# Altium footprint library PCB_Library.PcbLib: 42 footprints (part 3 of 3)
Each footprint in its own frame and in the unit in brackets; x right, y up, seen from the top. Pads: shape width x height; smd on the part's side, far side on the other; paste and mask are expansions set on the pad; w line width, h text height; cw(c..) or ccw(c..) is an arc to the next point about the centre after c.
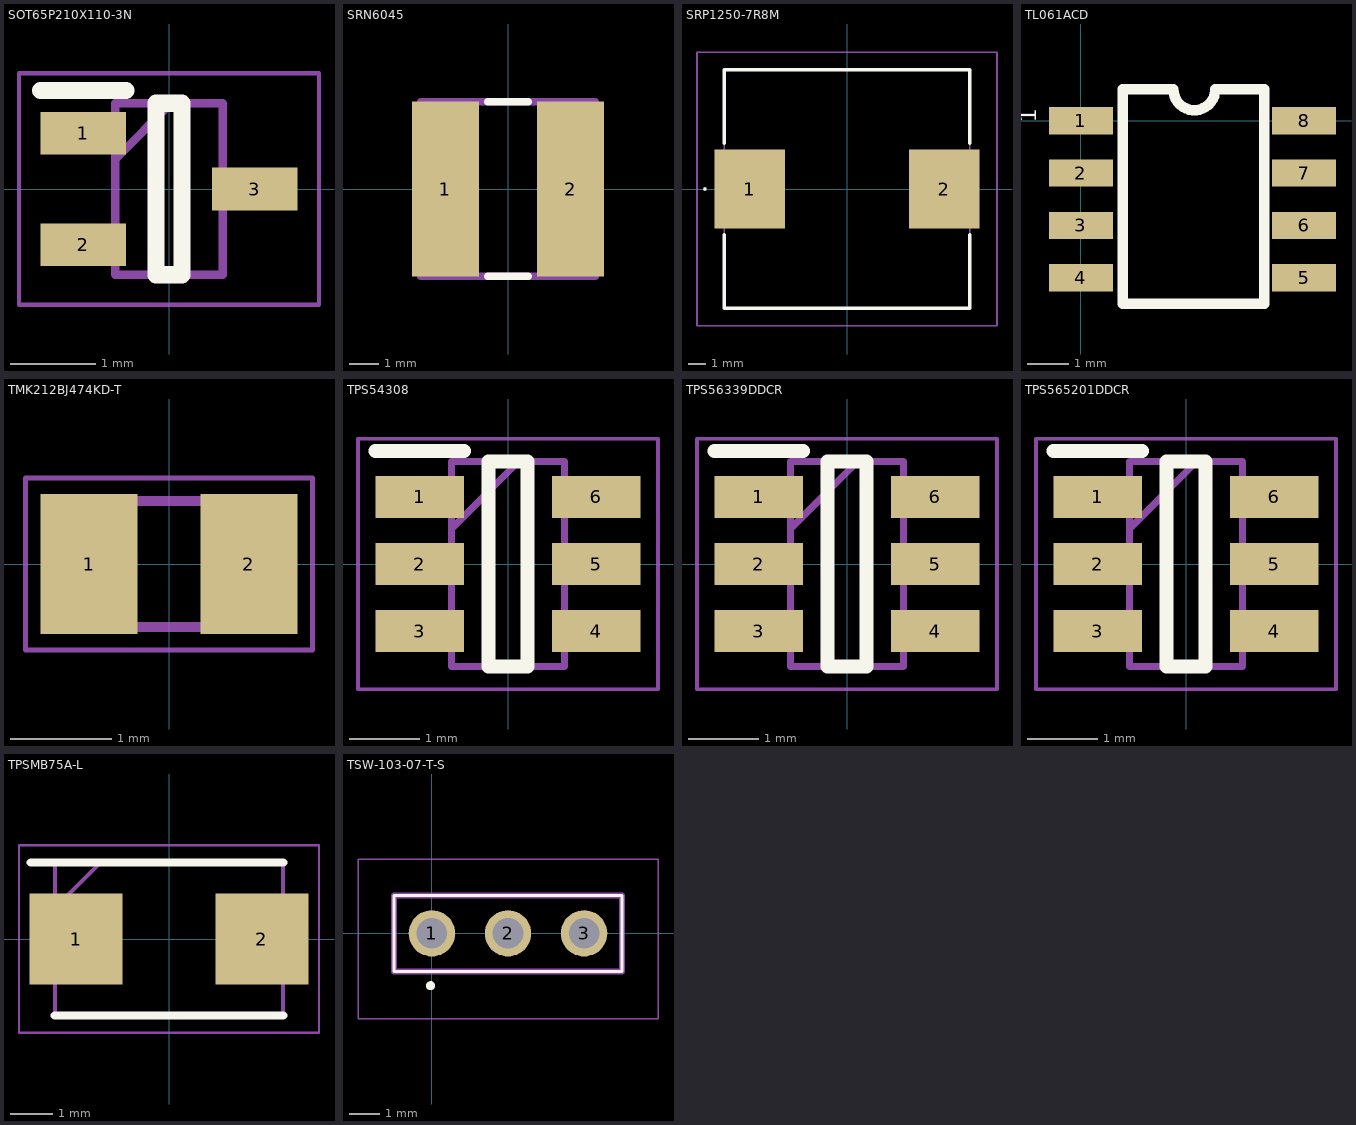
[diagram p2: the footprints below, top view; thin cyan lines are the x and y axes]

## SOT65P210X110-3N [mm]
pads (3):
  rect 1x0.5 smd: 1(-1,0.65) 2(-1,-0.65) 3(1,0)
Top Overlay:
  lines w0.2: -1.5,1.15 -0.5,1.15 ; -0.15,-1 -0.15,1 0.15,1 0.15,-1 -0.15,-1
Mechanical 13:
  lines w0.1: -0.625,0.35 0.025,1 ; -0.625,-1 -0.625,1 0.625,1 0.625,-1 -0.625,-1
Mechanical 15:
  lines w0.05: -1.75,-1.35 -1.75,1.35 1.75,1.35 1.75,-1.35 -1.75,-1.35
3D body "BSS123WQ-7-F.stp": height 1.1, standoff 0, extent -1.1,-1.1 1.1,1.1

## SRN6045 [mm]
pads (2):
  rect 2.3x6 smd: 1(-2.15,0) 2(2.15,0)
Top Overlay:
  lines w0.254: -0.7,-3 0.7,-3 ; -0.7,3 0.7,3
Mechanical 13:
  lines w0.254: -3,-3 -3,3 3,3 3,-3 -3,-3
3D body "SRN6045-6R8Y.stp": height 4.5, standoff 0, extent -3,-3 3,3

## SRP1250-7R8M [mm]
pads (2):
  rect 4x4.5 smd: 1(-5.5,0) 2(5.5,0)
Top Overlay:
  lines w0.1: -8.1,0 ccw(c-8.05,0) -8,0 ccw(c-8.05,0) -8.1,0
  lines w0.2: -6.95,-2.6 -6.95,-6.75 6.95,-6.75 6.95,-2.6 ; -6.95,2.6 -6.95,6.75 6.95,6.75 6.95,2.6
Mechanical 13:
  lines w0.1: -6.95,-6.75 -6.95,6.75 6.95,6.75 6.95,-6.75 -6.95,-6.75
Mechanical 15:
  lines w0.1: -8.5,-7.75 -8.5,7.75 8.5,7.75 8.5,-7.75 -8.5,-7.75
3D body "SRP1250-7R8M.stp": height 5.3, standoff 0, extent -7.1,-6.75 7.1,6.75

## TL061ACD [mil]
pads (8):
  rect 61x26 smd: 1(0,0) 3(0,-100) 4(0,-150) 5(213,-150) 6(213,-100) 7(213,-50) 8(213,0)
  rect 61x26 smd mask+4.02: 2(0,-50)
Top Overlay:
  lines w10: 40,-175 40,30 88.27,30 ccw(c108.27,30) 128.27,30 175,30 175,-175 ; 43.31,-175 173.23,-175
  text "1" at -42.87,-2.13 h15.75
3D body "7140827.stp": height 60.04, standoff -0.11, extent -13,-170 223,22.91

## TMK212BJ474KD-T [mm]
pads (2):
  rect 0.96x1.39 smd: 1(-0.79,0) 2(0.79,0)
Mechanical 13:
  lines w0.1: -1,-0.625 1,-0.625 1,0.625 -1,0.625 -1,-0.625
Mechanical 15:
  lines w0.05: -1.42,-0.85 1.42,-0.85 1.42,0.85 -1.42,0.85 -1.42,-0.85
3D body "TMK212BJ474KD-T.stp": height 0.95, standoff 0, extent -1,-0.625 1,0.625

## TPS54308 [mm]
pads (6):
  rect 1.25x0.6 smd: 1(-1.25,0.95) 2(-1.25,0) 3(-1.25,-0.95) 4(1.25,-0.95) 5(1.25,0) 6(1.25,0.95)
Top Overlay:
  lines w0.2: -1.875,1.6 -0.625,1.6 ; -0.275,-1.45 -0.275,1.45 0.275,1.45 0.275,-1.45 -0.275,-1.45
Mechanical 13:
  lines w0.1: -0.8,0.5 0.15,1.45 ; -0.8,-1.45 -0.8,1.45 0.8,1.45 0.8,-1.45 -0.8,-1.45
Mechanical 15:
  lines w0.05: -2.125,-1.775 -2.125,1.775 2.125,1.775 2.125,-1.775 -2.125,-1.775
3D body "TPS56339DDCR.stp": height 0.97, standoff 0, extent -1.4,-1.45 1.4,1.45

## TPS56339DDCR [mm]
pads (6):
  rect 1.25x0.6 smd: 1(-1.25,0.95) 2(-1.25,0) 3(-1.25,-0.95) 4(1.25,-0.95) 5(1.25,0) 6(1.25,0.95)
Top Overlay:
  lines w0.2: -1.875,1.6 -0.625,1.6 ; -0.275,-1.45 -0.275,1.45 0.275,1.45 0.275,-1.45 -0.275,-1.45
Mechanical 13:
  lines w0.1: -0.8,0.5 0.15,1.45 ; -0.8,-1.45 -0.8,1.45 0.8,1.45 0.8,-1.45 -0.8,-1.45
Mechanical 15:
  lines w0.05: -2.125,-1.775 -2.125,1.775 2.125,1.775 2.125,-1.775 -2.125,-1.775
3D body "TPS56339DDCR.stp": height 0.97, standoff 0, extent -1.4,-1.45 1.4,1.45

## TPS565201DDCR [mm]
pads (6):
  rect 1.25x0.6 smd: 1(-1.25,0.95) 2(-1.25,0) 3(-1.25,-0.95) 4(1.25,-0.95) 5(1.25,0) 6(1.25,0.95)
Top Overlay:
  lines w0.2: -1.875,1.6 -0.625,1.6 ; -0.275,-1.45 0.275,-1.45 0.275,1.45 -0.275,1.45 -0.275,-1.45
Mechanical 13:
  lines w0.1: -0.8,0.5 0.15,1.45 ; -0.8,-1.45 0.8,-1.45 0.8,1.45 -0.8,1.45 -0.8,-1.45
Mechanical 15:
  lines w0.05: -2.125,-1.775 2.125,-1.775 2.125,1.775 -2.125,1.775 -2.125,-1.775
3D body "TPS565201DDCR.stp": height 0.97, standoff 0, extent -1.4,-1.45 1.4,1.45

## TPSMB75A-L [mm]
pads (2):
  rect 2.2x2.15 smd: 1(-2.2,0) 2(2.2,0)
Top Overlay:
  lines w0.2: -3.275,1.81 2.7,1.81 ; -2.7,-1.81 2.7,-1.81
Mechanical 13:
  lines w0.1: -2.7,0.735 -1.625,1.81 ; -2.7,-1.81 2.7,-1.81 2.7,1.81 -2.7,1.81 -2.7,-1.81
Mechanical 15:
  lines w0.05: -3.55,-2.22 3.55,-2.22 3.55,2.22 -3.55,2.22 -3.55,-2.22
3D body "TPSMB75A-L.stp": height 1.12, standoff -1.32, extent -2.573,-1.937 2.827,1.683

## TSW-103-07-T-S [mm]
pads (3):
  round 1.55 hole 1.02: 1(0,0) 2(2.54,0) 3(5.08,0)
Top Overlay:
  circle w0.2: c-0.05,-1.75 r0.05
  lines w0.1: -1.27,-1.27 6.35,-1.27 6.35,1.27 -1.27,1.27 -1.27,-1.27
Mechanical 13:
  lines w0.2: -1.27,-1.27 6.35,-1.27 6.35,1.27 -1.27,1.27 -1.27,-1.27
Mechanical 15:
  lines w0.05: -2.47,-2.85 7.55,-2.85 7.55,2.47 -2.47,2.47 -2.47,-2.85
3D body "TSW-103-07-T-S.stp": height 5.21, standoff -3.3, extent -1.337,-1.46 6.41,1.08